# Altium schematic symbol library Analog_Device.SchLib: 10 symbols
Pins are listed as number, name and electrical type; pins without a type are passive.

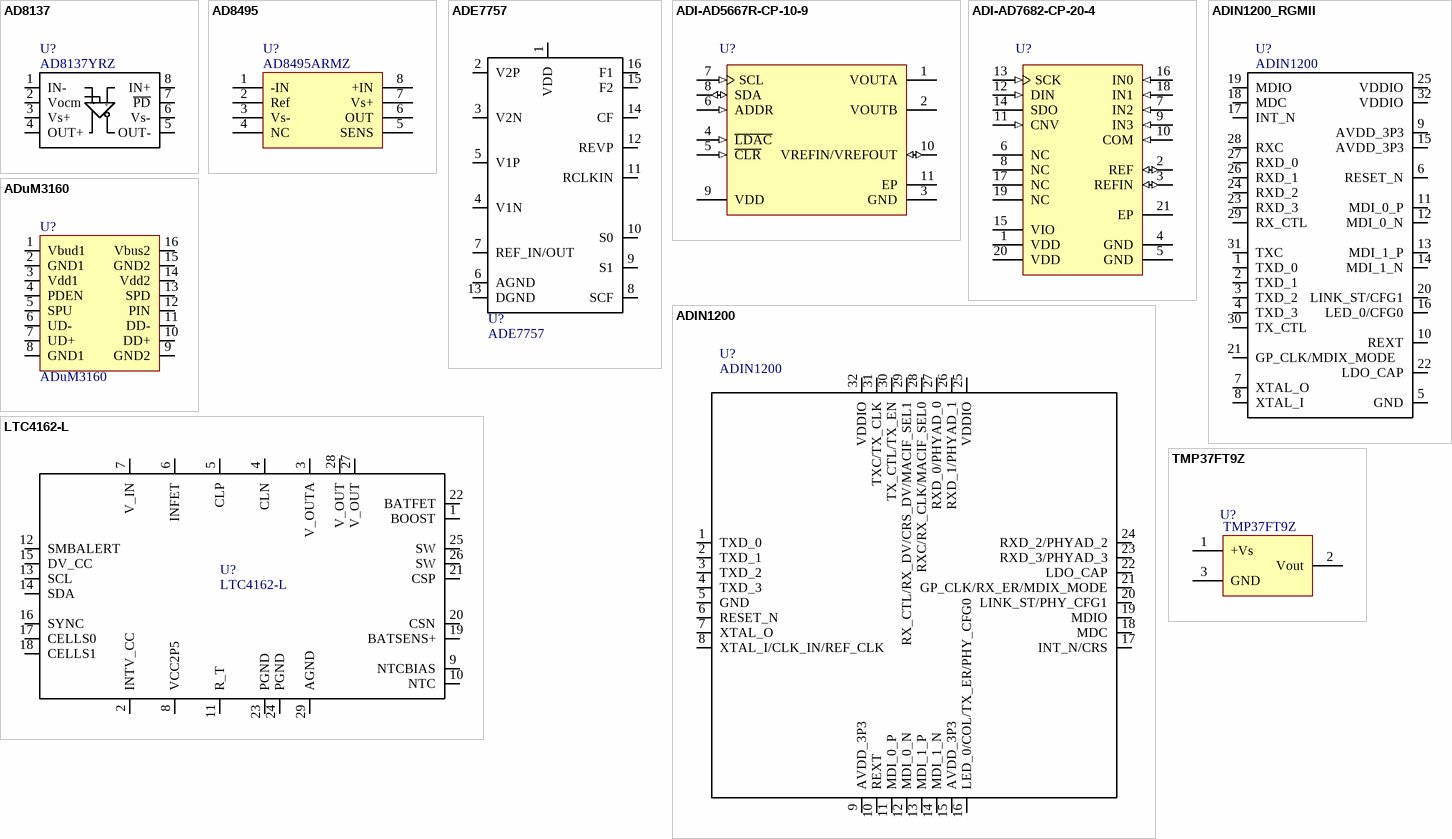
[diagram p0: symbols AD8137 to TMP37FT9Z]

## AD8137
designator U?, comment Part Number: AD8137YRZ  (hidden comment: Differential output OpAmp)
Manufacturer: Analog Devices; Price 1: *; Price 100: *; Price 1000: *
footprint LT-S8-8_N (SOIC, 8-Leads, Body 4.9x3.9mm, Pitch 1.27mm, IPC Medium Density)
pins: 1 IN-, 2 Vocm, 3 Vs+, 4 OUT+, 5 OUT-, 6 Vs-, 7 ~{PD}, 8 IN+
text: -; +

## AD8495
designator U?, comment AD8495ARMZ
ANALOG DEVICES - AD8495ARMZ - IC, THERMOCOUPLE, K, W/COMP, 8MSOP; Cataog number: 1864707; Value: AD8495ARMZ; Price: 5.49
footprint MSOP 8pin 0.65p
pins: 1 -IN "no connection.", 2 Ref "no connection.", 3 Vs- "no connection.", 4 NC "no connection.", 5 SENS "no connection.", 6 OUT "no connection.", 7 Vs+ "no connection.", 8 +IN "no connection."

## ADE7757
designator U?
Energy Metering IC  with Integrated Oscillator; Manufacturer: Analog Devices; Price 1: *; Price 100: *; Price 1000: *; Part Number: *
footprint SO-16 1.27p
pins: 1 VDD, 2 V2P, 3 V2N, 4 V1N, 5 V1P, 6 AGND, 7 REF_IN/OUT, 8 SCF, 9 S1, 10 S0, 11 RCLKIN, 12 REVP, 13 DGND, 14 CF, 15 F2, 16 F1

## ADI-AD5667R-CP-10-9
designator U?
footprint RM-10_N (TSSOP, 10-Leads, Body 3x3mm, Pitch 0.5mm, IPC Medium Density)
pins: 1 VOUTA (hiz) "Analog Output Voltage from DAC A. The output amplifier has rail-to-rail operation.", 2 VOUTB (hiz) "Analog Output Voltage from DAC B. The output amplifier has rail-to-rail operation.", 3 GND (power) "Ground reference point for all circuitry on the part.", 4 ~{LDAC} (in) "Pulsing this pin low allows any or all DAC registers to be updated if the inputs have new data. This allows simultaneous updates of all DAC outputs. Alternatively, this pin can be tied permanently low.", 5 ~{CLR} (in) "Asynchronous Clear Input. The C\L\R\ input is falling-edge sensitive. While C\L\R\ is low, all LDAC pulses are ignored. When C\L\R\ is activated, zero scale is loaded to all input and DAC registers. This clears the output to (See Datasheet)", 6 ADDR (in) "Three-State Address Input. Sets the two least significant bits (Bit A1, Bit A0) of the 7-bit slave address.", 7 SCL (in) "Serial Clock Line. This is used in conjunction with the SDA line to clock data into or out of the 24-bit input register.", 8 SDA (io) "Serial Data Line. This is used in conjunction with the SCL line to clock data into or out of the 24-bit input register. It is a bidirectional, open-drain data line that should be pulled to the supply with an external pull-up (See Datasheet)", 9 VDD (power) "Power Supply Input. These parts can be operated from 2.7 V to 5.5 V, and the supply should be decoupled with a 10 uF capacitor in parallel with a 0.1 uF capacitor to GND.", 10 VREFIN/VREFOUT (io) "The AD5667R have a common pin for reference input and reference output. When using the internal reference, this is the reference output pin. When using an external reference, this is the reference input pin. The default for (See Datasheet)", 11 EP (power) "Expose pad."

## ADI-AD7682-CP-20-4
designator U?
footprint QFN_16_4x4 (QFN, 20-Leads, Body 4x4mm, Pitch 0.5mm, Thermal Pad 2.5x2.5mm, IPC Low Density)
pins: 1 VDD (power) "Power Supply. Nominally 2.5 V to 5.5 V when using an external reference and decoupled with 10 uF and 100 nF capacitors. When using the internal reference for a2.5 V output, the minimum should be 3.0 V. When using the (See Datasheet)", 2 REF (io) "Reference Input/Output. See the Voltage Reference Output/Input section. When the internal reference is enabled, this pin produces a selectable system reference of 2.5 V or 4.096 V. When the internal reference is disabled and (See Datasheet)", 3 REFIN (io) "Internal Reference Output/Reference Buffer Input. See the Voltage Reference Output/Input section. When using the internal reference, the internal unbuffered reference voltage is present and needs decoupling with a 0.1 uF (See Datasheet)", 4 GND (power) "Power Supply Ground.", 5 GND (power) "Power Supply Ground.", 6 NC "no connection.", 7 IN2 (in) "Analog Input Channel 2.", 8 NC "no connection.", 9 IN3 (in) "Analog Input Channel 3.", 10 COM (in) "Common Channel Input. All input channels, IN[7:0], can be referenced to a common-mode point of 0 V or VREF/2 V.", 11 CNV (in) "Conversion Input. On the rising edge, CNV initiates the conversion. During conversion, if CNV is held low, the busy indictor is enabled.", 12 DIN (in) "Data Input. This input is used for writing to the 14-bit configuration register. The configuration register can be written to during and after conversion.", 13 SCK (in) "Serial Data Clock Input. This input is used to clock out the data on SDO and clock in data on DIN in an MSB first fashion.", 14 SDO (hiz) "Serial Data Output. The conversion result is output on this pin, synchronized to SCK. In unipolar modes, conversion results are straight binary; in bipolar modes, conversion results are twos complement.", 15 VIO (power) "Input/Output Interface Digital Power. Nominally at the same supply as the host interface (1.8 V, 2.5 V, 3 V, or 5 V).", 16 IN0 (in) "Analog Input Channel 0.", 17 NC "no connection.", 18 IN1 (in) "Analog Input Channel 1.", 19 NC "no connection.", 20 VDD (power) "Power Supply. Nominally 2.5 V to 5.5 V when using an external reference and decoupled with 10 uF and 100 nF capacitors. When using the internal reference for a2.5 V output, the minimum should be 3.0 V. When using the (See Datasheet)", 21 EP (power) "The exposed pad is not connected internally. For increased reliability of the solder joints, it is recommended that the pad be soldered to the system ground plane."

## ADIN1200
designator U?
10 Mbps and 100 Mbps Ethernet PHY; Manufacturer: Analog Devices; Part Number: *; Price 1: *; Price 100: *; Price 1000: *
footprint ADIN1200 (10 Mbps and 100 Mbps Ethernet PHY)
pins: 1 TXD_0, 2 TXD_1, 3 TXD_2, 4 TXD_3, 5 GND, 6 RESET_N, 7 XTAL_O, 8 XTAL_I/CLK_IN/REF_CLK, 9 AVDD_3P3, 10 REXT, 11 MDI_0_P, 12 MDI_0_N, 13 MDI_1_P, 14 MDI_1_N, 15 AVDD_3P3, 16 LED_0/COL/TX_ER/PHY_CFG0, 17 INT_N/CRS, 18 MDC, 19 MDIO, 20 LINK_ST/PHY_CFG1, 21 GP_CLK/RX_ER/MDIX_MODE, 22 LDO_CAP, 23 RXD_3/PHYAD_3, 24 RXD_2/PHYAD_2, 25 VDDIO, 26 RXD_1/PHYAD_1, 27 RXD_0/PHYAD_0, 28 RXC/RX_CLK/MACIF_SEL0, 29 RX_CTL/RX_DV/CRS_DV/MACIF_SEL1, 30 TX_CTL/TX_EN, 31 TXC/TX_CLK, 32 VDDIO

## ADIN1200_RGMII
designator U?, comment ADIN1200
10 Mbps and 100 Mbps Ethernet PHY; Manufacturer: Analog Devices; Part Number: ADIN1200BCP32Z; Alternatives: ADIN1200CCP32Z, ADIN1200CCP32Z-R7, ADIN1200BCP32Z-R7; Price 1: 2.48; Price 100: 1.60; Price 1000: 0.99
footprint ADIN1200 (10 Mbps and 100 Mbps Ethernet PHY)
pins: 1 TXD_0, 2 TXD_1, 3 TXD_2, 4 TXD_3, 5 GND, 6 RESET_N, 7 XTAL_O, 8 XTAL_I, 9 AVDD_3P3, 10 REXT, 11 MDI_0_P, 12 MDI_0_N, 13 MDI_1_P, 14 MDI_1_N, 15 AVDD_3P3, 16 LED_0/CFG0, 17 INT_N, 18 MDC, 19 MDIO, 20 LINK_ST/CFG1, 21 GP_CLK/MDIX_MODE, 22 LDO_CAP, 23 RXD_3, 24 RXD_2, 25 VDDIO, 26 RXD_1, 27 RXD_0, 28 RXC, 29 RX_CTL, 30 TX_CTL, 31 TXC, 32 VDDIO

## ADuM3160
designator U?
Price: *; Catalog: *; Catalog number: *; Catalog page: *
footprint RW-16_N (16-Pin Wide Body Small Outline Integrated Circuit 1.27 mm Pitch, IPC Medium Density)
pins: 1 Vbud1, 2 GND1, 3 Vdd1, 4 PDEN, 5 SPU, 6 UD-, 7 UD+, 8 GND1, 9 GND2, 10 DD+, 11 DD-, 12 PIN, 13 SPD, 14 Vdd2, 15 GND2, 16 Vbus2

## LTC4162-L
designator U?
Lithium-Ion Step-Down Battery Charger with PowerPath and I2C Telemetry; Manufacturer: Analog Devices; Part Number: *; Price 1: *; Price 100: *; Price 1000: *
footprint LTC4162-L (Lithium-Ion Step-Down Battery Charger  with PowerPath and I2C Telemetry)
pins: 1 BOOST, 2 INTV_CC, 3 V_OUTA, 4 CLN, 5 CLP, 6 INFET, 7 V_IN, 8 VCC2P5, 9 NTCBIAS, 10 NTC, 11 R_T, 12 SMBALERT, 13 SCL, 14 SDA, 15 DV_CC, 16 SYNC, 17 CELLS0, 18 CELLS1, 19 BATSENS+, 20 CSN, 21 CSP, 22 BATFET, 23 PGND, 24 PGND, 25 SW, 26 SW, 27 V_OUT, 28 V_OUT, 29 AGND

## TMP37FT9Z
designator U?
Low Voltage Temperature Sensors; Value: TMP37FT9Z; Price: *; Catalog number: *
footprint TO-92 2 (TO-92)
pins: 1 +Vs, 2 Vout, 3 GND